# Altium integrated library SN74LS04N.IntLib: 1 symbol
Pins are listed as number, name and electrical type; pins without a type are passive.

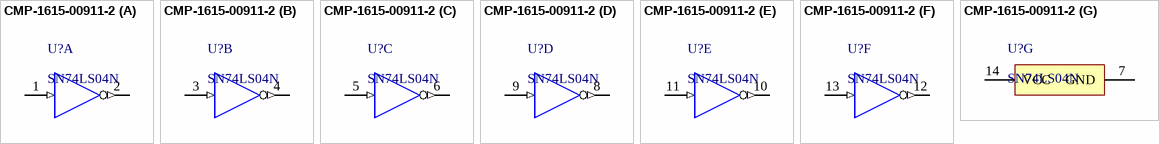
[diagram p0: symbol CMP-1615-00911-2]

## CMP-1615-00911-2
designator U?, comment SN74LS04N
Hex inverters, N0014A, TUBE; Manufacturer: Texas Instruments; Output Drive (IOL/IOH)(Max)(mA): -0.4/8; Schmitt Trigger: No; F @ Nom Voltage(Max)(Mhz): 35; Voltage(Nom)(V): 5; Technology Family: LS; Input Type: TTL; Output Type: CMOS; Bits(#): 6; VCC(Max)(V): 5.25; ICC @ Nom Voltage(Max)(mA): 0.033; Rating: Catalog; VCC(Min)(V): 4.75; tpd @ Nom Voltage(Max)(ns): 22; Operating Temperature Range(C): 0 to 70; DatasheetVersion: SDLS029C; Generic Part Number: SN74LS04; Code_JEDEC: MS-001; PackageReference: N0014A
footprint N0014A (DIP, 14-Leads, Body 19.7x6.6mm, Pitch 2.54mm)
part A pins: 1 1A (in) "Input 1A", 2 ~{1Y} (out) "Output 1Y"
part B pins: 3 2A (in) "Input 2A", 4 ~{2Y} (out) "Output 2Y"
part C pins: 5 3A (in) "Input 3A", 6 ~{3Y} (out) "Output 3Y"
part D pins: 8 ~{4Y} (out) "Output 4Y", 9 4A (in) "Input 4A"
part E pins: 10 ~{5Y} (out) "Output 5Y", 11 5A (in) "Input 5A"
part F pins: 12 ~{6Y} (out) "Output 6Y", 13 6A (in) "Input 6A"
part G pins: 7 GND (power) "Ground Pin", 14 VCC (power) "Power Pin"